# Altium integrated library juziuLibrary.IntLib: 11 symbols
Pins are listed as number, name and electrical type; pins without a type are passive.

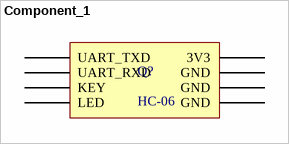
[diagram p0: symbol Component_1]

## Component_1
designator Q?, comment HC-06
Bluetooth
footprint PCBComponent_1; pin to pad 1>UART_TXD 2>UART_RXD 3>3V3 4>GND 5>GND 6>GND 7>LED 8>KEY
pins: 1 UART_TXD, 2 UART_RXD, 3 3V3, 4 GND, 5 GND, 6 GND, 7 LED, 8 KEY


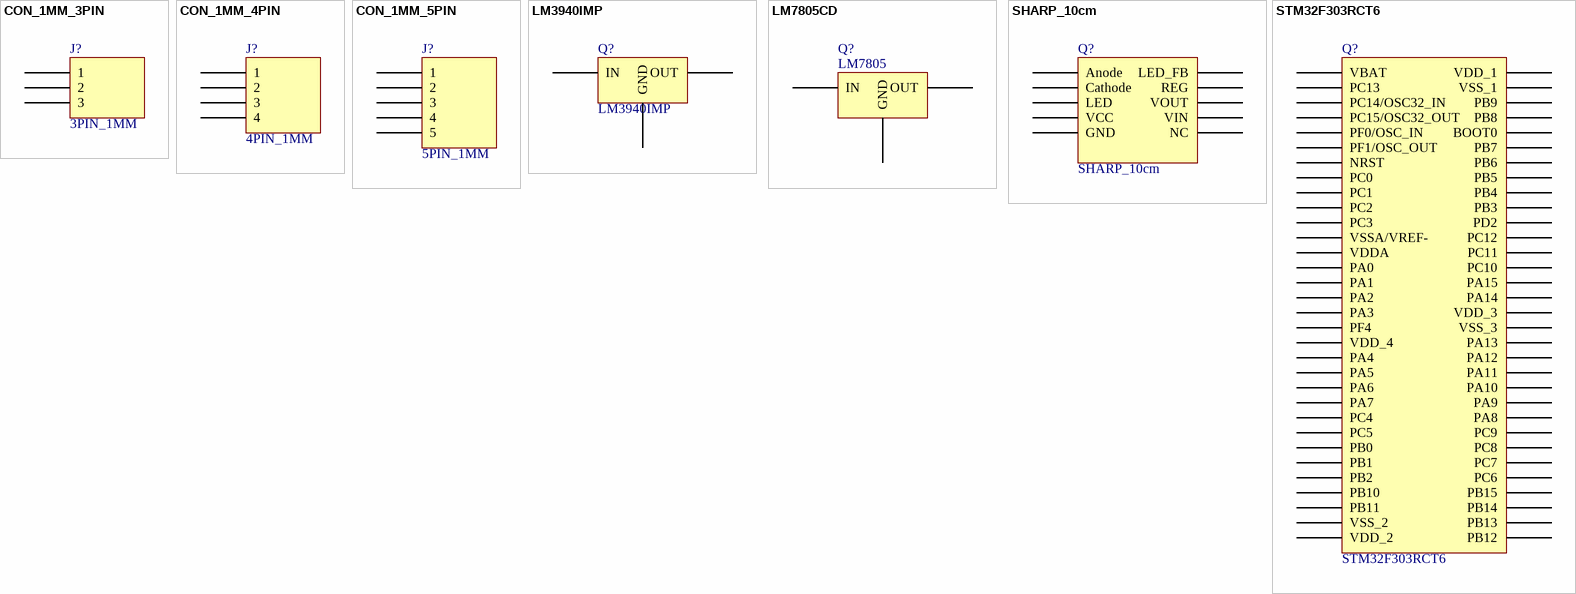
[diagram p1: symbols CON_1MM_3PIN to STM32F303RCT6]

## CON_1MM_3PIN
designator J?, comment 3PIN_1MM
footprint CON_1MM_3PIN
pins: 1, 2, 3

## CON_1MM_4PIN
designator J?, comment 4PIN_1MM
footprint CON_1mm_4pin
pins: 1, 2, 3, 4

## CON_1MM_5PIN
designator J?, comment 5PIN_1MM
footprint CON_1MM_5PIN
pins: 1, 2, 3, 4, 5

## LM3940IMP
designator Q?
footprint LM3940IMP (LM3940IMIP)
pins: GND, IN, OUT

## LM7805CD
designator Q?, comment LM7805
footprint LM7805_D2PAK (LM7805)
pins: GND, IN, OUT

## SHARP_10cm
designator Q?
footprint SHARP_10cm
pins: Anode, Cathode, GND, LED, LED_FB, NC, REG, VCC, VIN, VOUT

## STM32F303RCT6
designator Q?
footprint STM32F303RCT6; pin to pad 1>VBAT 2>PC13 3>PC14/OSC32_IN 4>PC15/OSC32_OUT 5>PF0/OSC_IN 6>PF1/OSC_OUT 7>NRST 8>PC0 9>PC1 10>PC2 11>PC3 12>VSSA/VREF- 13>VDDA 14>PA0 15>PA1 16>PA2 17>PA3 18>PF4 19>VDD_4 20>PA4 21>PA5 22>PA6 23>PA7 24>PC4 25>PC5 26>PB0 27>PB1 28>PB2 29>PB10 30>PB11 31>VSS_2 32>VDD_2 33>PB12 34>PB13 35>PB14 36>PB15 37>PC6 38>PC7 39>PC8 40>PC9 41>PA8 42>PA9 43>PA10 44>PA11 45>PA12 46>PA13 47>VSS_3 48>VDD_3 49>PA14 50>PA15 51>PC10 52>PC11 53>PC12 54>PD2 55>PB3 56>PB4 57>PB5 58>PB6 59>PB7 60>BOOT0 61>PB8 62>PB9 63>VSS_1 64>VDD_1
pins: 1 VBAT, 2 PC13, 3 PC14/OSC32_IN, 4 PC15/OSC32_OUT, 5 PF0/OSC_IN, 6 PF1/OSC_OUT, 7 NRST, 8 PC0, 9 PC1, 10 PC2, 11 PC3, 12 VSSA/VREF-, 13 VDDA, 14 PA0, 15 PA1, 16 PA2, 17 PA3, 18 PF4, 19 VDD_4, 20 PA4, 21 PA5, 22 PA6, 23 PA7, 24 PC4, 25 PC5, 26 PB0, 27 PB1, 28 PB2, 29 PB10, 30 PB11, 31 VSS_2, 32 VDD_2, 33 PB12, 34 PB13, 35 PB14, 36 PB15, 37 PC6, 38 PC7, 39 PC8, 40 PC9, 41 PA8, 42 PA9, 43 PA10, 44 PA11, 45 PA12, 46 PA13, 47 VSS_3, 48 VDD_3, 49 PA14, 50 PA15, 51 PC10, 52 PC11, 53 PC12, 54 PD2, 55 PB3, 56 PB4, 57 PB5, 58 PB6, 59 PB7, 60 BOOT0, 61 PB8, 62 PB9, 63 VSS_1, 64 VDD_1


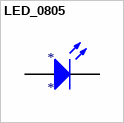
[diagram p2: symbol LED_0805]

## LED_0805
designator *
footprint 0805
pins: 1 K, 2 A


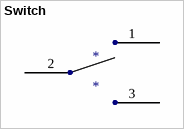
[diagram p3: symbol Switch]

## Switch
designator *
footprint Switch
pins: 1, 2, 3


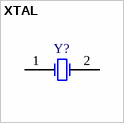
[diagram p4: symbol XTAL]

## XTAL
designator Y?
Crystal Oscillator; Published: 8-Jun-2000; LatestRevisionDate: 17-Jul-2002; LatestRevisionNote: Re-released for DXP Platform.; PackageReference: R38; Publisher: Altium Limited; PackageDescription: Crystal, Thru-Hole; 2 Leads; Body 3.1 x 8.2 mm (Dia.xH)
footprint PCBComponent_1 - duplicate
pins: 1 OSC1, 2 OSC2